# Altium schematic symbol library spacemonochrome-WR_TBL.SchLib: 1696 symbols (part 3 of 28)
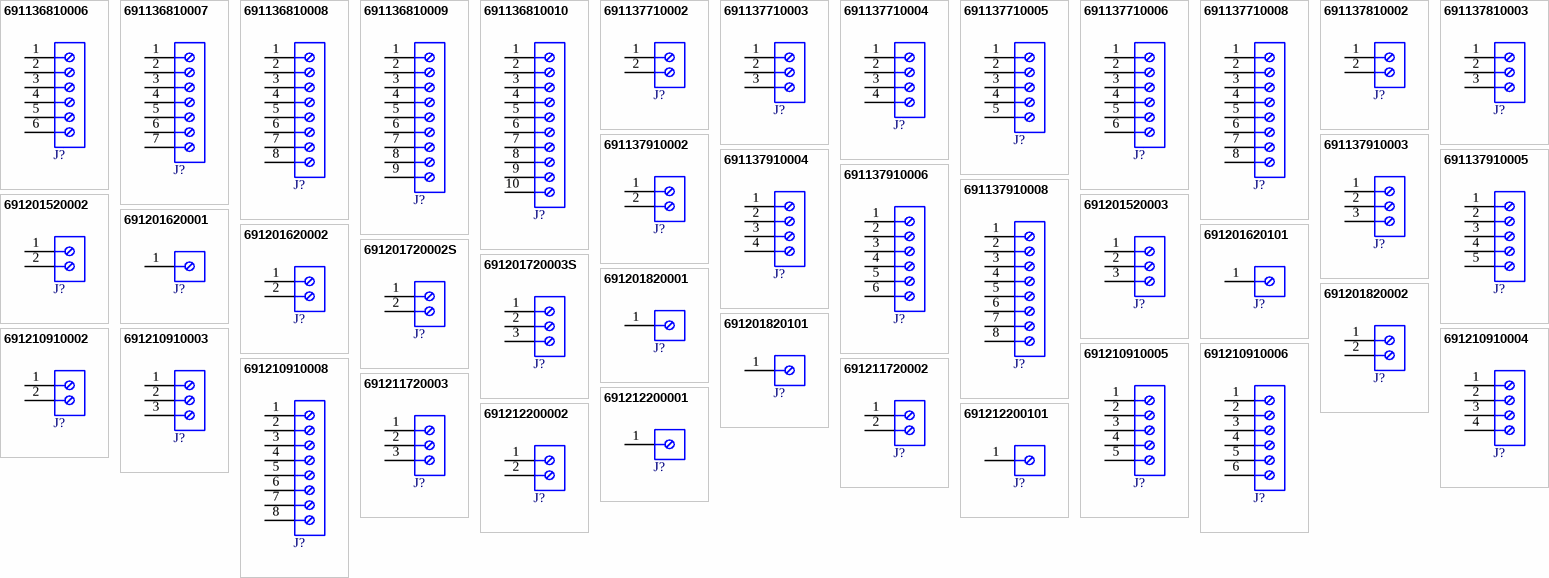
[diagram p44: symbols 691136810006 to 691212200101]

## 691137710003
designator J?  (value not drawn)
WR-TBL Series 1377 Horizontal Entry, THT, pitch 5mm, 3p; Manufacturer: Wurth Elektronik; Modularity: No; Rated Current: 16A; Working Voltage: 300V; ComponentLink1Description: Website Link; ComponentLink1URL: https://www.we-online.com/redexpert/article/691137710003?ad; ComponentLink2Description: Datasheet Link; ComponentLink2URL: https://www.we-online.com/redexpert/spec/691137710003?ad; Manufacturer Part Number: 691137710003; Category: Terminal Blocks; Match Code: WR-TBL; Mount: Through Hole; Operating Temperature Max: 120°C; Operating Temperature Min: -30°C; Packaging: Box; Application: Pressure Clamp; Number of Pins: 3; Number of Rows: 1; Orientation: Horizontal; Pitch: 5mm
footprint 691137710003
pins: 1, 2, 3

## 691137710004
designator J?  (value not drawn)
WR-TBL Series 1377 Horizontal Entry, THT, pitch 5mm, 4p; Manufacturer: Wurth Elektronik; Modularity: No; Rated Current: 16A; Working Voltage: 300V; ComponentLink1Description: Website Link; ComponentLink1URL: https://www.we-online.com/redexpert/article/691137710004?ad; ComponentLink2Description: Datasheet Link; ComponentLink2URL: https://www.we-online.com/redexpert/spec/691137710004?ad; Manufacturer Part Number: 691137710004; Category: Terminal Blocks; Match Code: WR-TBL; Mount: Through Hole; Operating Temperature Max: 120°C; Operating Temperature Min: -30°C; Packaging: Box; Application: Pressure Clamp; Number of Pins: 4; Number of Rows: 1; Orientation: Horizontal; Pitch: 5mm
footprint 691137710004
pins: 1, 2, 3, 4

## 691137710005
designator J?  (value not drawn)
WR-TBL Series 1377 Horizontal Entry, THT, pitch 5mm, 5p; Manufacturer: Wurth Elektronik; Modularity: No; Rated Current: 16A; Working Voltage: 300V; ComponentLink1Description: Website Link; ComponentLink1URL: https://www.we-online.com/redexpert/article/691137710005?ad; ComponentLink2Description: Datasheet Link; ComponentLink2URL: https://www.we-online.com/redexpert/spec/691137710005?ad; Manufacturer Part Number: 691137710005; Category: Terminal Blocks; Match Code: WR-TBL; Mount: Through Hole; Operating Temperature Max: 120°C; Operating Temperature Min: -30°C; Packaging: Box; Application: Pressure Clamp; Number of Pins: 5; Number of Rows: 1; Orientation: Horizontal; Pitch: 5mm
footprint 691137710005
pins: 1, 2, 3, 4, 5

## 691137710006
designator J?  (value not drawn)
WR-TBL Series 1377 Horizontal Entry, THT, pitch 5mm, 6p; Manufacturer: Wurth Elektronik; Modularity: No; Rated Current: 16A; Working Voltage: 300V; ComponentLink1Description: Website Link; ComponentLink1URL: https://www.we-online.com/redexpert/article/691137710006?ad; ComponentLink2Description: Datasheet Link; ComponentLink2URL: https://www.we-online.com/redexpert/spec/691137710006?ad; Manufacturer Part Number: 691137710006; Category: Terminal Blocks; Match Code: WR-TBL; Mount: Through Hole; Operating Temperature Max: 120°C; Operating Temperature Min: -30°C; Packaging: Box; Application: Pressure Clamp; Number of Pins: 6; Number of Rows: 1; Orientation: Horizontal; Pitch: 5mm
footprint 691137710006
pins: 1, 2, 3, 4, 5, 6

## 691137710008
designator J?  (value not drawn)
WR-TBL Series 1377 Horizontal Entry, THT, pitch 5mm, 8p; Manufacturer: Wurth Elektronik; Modularity: No; Rated Current: 16A; Working Voltage: 300V; ComponentLink1Description: Website Link; ComponentLink1URL: https://www.we-online.com/redexpert/article/691137710008?ad; ComponentLink2Description: Datasheet Link; ComponentLink2URL: https://www.we-online.com/redexpert/spec/691137710008?ad; Manufacturer Part Number: 691137710008; Category: Terminal Blocks; Match Code: WR-TBL; Mount: Through Hole; Operating Temperature Max: 120°C; Operating Temperature Min: -30°C; Packaging: Box; Application: Pressure Clamp; Number of Pins: 8; Number of Rows: 1; Orientation: Horizontal; Pitch: 5mm
footprint 691137710008
pins: 1, 2, 3, 4, 5, 6, 7, 8

## 691137810002
designator J?  (value not drawn)
WR-TBL Series 1378 Horizontal Cable Entry, THT, pitch 10mm, 2p; Manufacturer: Wurth Elektronik; Modularity: No; Rated Current: 16A; Working Voltage: 300V; ComponentLink1Description: Website Link; ComponentLink1URL: https://www.we-online.com/redexpert/article/691137810002?ad; ComponentLink2Description: Datasheet Link; ComponentLink2URL: https://www.we-online.com/redexpert/spec/691137810002?ad; Manufacturer Part Number: 691137810002; Category: Terminal Blocks; Match Code: WR-TBL; Mount: Through Hole; Operating Temperature Max: 120°C; Operating Temperature Min: -30°C; Packaging: Box; Application: Pressure Clamp; Number of Pins: 2; Number of Rows: 1; Orientation: Horizontal; Pitch: 10mm
footprint 691137810002
pins: 1, 2

## 691137810003
designator J?  (value not drawn)
WR-TBL Series 1378 Horizontal Cable Entry, THT, pitch 10mm, 3p; Manufacturer: Wurth Elektronik; Modularity: No; Rated Current: 16A; Working Voltage: 300V; ComponentLink1Description: Website Link; ComponentLink1URL: https://www.we-online.com/redexpert/article/691137810003?ad; ComponentLink2Description: Datasheet Link; ComponentLink2URL: https://www.we-online.com/redexpert/spec/691137810003?ad; Manufacturer Part Number: 691137810003; Category: Terminal Blocks; Match Code: WR-TBL; Mount: Through Hole; Operating Temperature Max: 120°C; Operating Temperature Min: -30°C; Packaging: Box; Application: Pressure Clamp; Number of Pins: 3; Number of Rows: 1; Orientation: Horizontal; Pitch: 10mm
footprint 691137810003
pins: 1, 2, 3

## 691137910002
designator J?  (value not drawn)
WR-TBL Series 1379 Horizontal Cable Entry, THT, pitch 7.5mm, 2p; Manufacturer: Wurth Elektronik; Modularity: No; Rated Current: 16A; Working Voltage: 300V; ComponentLink1Description: Website Link; ComponentLink1URL: https://www.we-online.com/redexpert/article/691137910002?ad; ComponentLink2Description: Datasheet Link; ComponentLink2URL: https://www.we-online.com/redexpert/spec/691137910002?ad; Manufacturer Part Number: 691137910002; Category: Terminal Blocks; Match Code: WR-TBL; Mount: Through Hole; Operating Temperature Max: 120°C; Operating Temperature Min: -30°C; Packaging: Box; Application: Pressure Clamp; Number of Pins: 2; Number of Rows: 1; Orientation: Horizontal; Pitch: 7.5mm
footprint 691137910002
pins: 1, 2

## 691137910003
designator J?  (value not drawn)
WR-TBL Series 1379 Horizontal Cable Entry, THT, pitch 7.5mm, 3p; Manufacturer: Wurth Elektronik; Modularity: No; Rated Current: 16A; Working Voltage: 300V; ComponentLink1Description: Website Link; ComponentLink1URL: https://www.we-online.com/redexpert/article/691137910003?ad; ComponentLink2Description: Datasheet Link; ComponentLink2URL: https://www.we-online.com/redexpert/spec/691137910003?ad; Manufacturer Part Number: 691137910003; Category: Terminal Blocks; Match Code: WR-TBL; Mount: Through Hole; Operating Temperature Max: 120°C; Operating Temperature Min: -30°C; Packaging: Box; Application: Pressure Clamp; Number of Pins: 3; Number of Rows: 1; Orientation: Horizontal; Pitch: 7.5mm
footprint 691137910003
pins: 1, 2, 3

## 691137910004
designator J?  (value not drawn)
WR-TBL Series 1379 Horizontal Cable Entry, THT, pitch 7.5mm, 4p; Manufacturer: Wurth Elektronik; Modularity: No; Rated Current: 16A; Working Voltage: 300V; ComponentLink1Description: Website Link; ComponentLink1URL: https://www.we-online.com/redexpert/article/691137910004?ad; ComponentLink2Description: Datasheet Link; ComponentLink2URL: https://www.we-online.com/redexpert/spec/691137910004?ad; Manufacturer Part Number: 691137910004; Category: Terminal Blocks; Match Code: WR-TBL; Mount: Through Hole; Operating Temperature Max: 120°C; Operating Temperature Min: -30°C; Packaging: Box; Application: Pressure Clamp; Number of Pins: 4; Number of Rows: 1; Orientation: Horizontal; Pitch: 7.5mm
footprint 691137910004
pins: 1, 2, 3, 4

## 691137910005
designator J?  (value not drawn)
WR-TBL Series 1379 Horizontal Cable Entry, THT, pitch 7.5mm, 5p; Manufacturer: Wurth Elektronik; Modularity: No; Rated Current: 16A; Working Voltage: 300V; ComponentLink1Description: Website Link; ComponentLink1URL: https://www.we-online.com/redexpert/article/691137910005?ad; ComponentLink2Description: Datasheet Link; ComponentLink2URL: https://www.we-online.com/redexpert/spec/691137910005?ad; Manufacturer Part Number: 691137910005; Category: Terminal Blocks; Match Code: WR-TBL; Mount: Through Hole; Operating Temperature Max: 120°C; Operating Temperature Min: -30°C; Packaging: Box; Application: Pressure Clamp; Number of Pins: 5; Number of Rows: 1; Orientation: Horizontal; Pitch: 7.5mm
footprint 691137910005
pins: 1, 2, 3, 4, 5

## 691137910006
designator J?  (value not drawn)
WR-TBL Series 1379 Horizontal Cable Entry, THT, pitch 7.5mm, 6p; Manufacturer: Wurth Elektronik; Modularity: No; Rated Current: 16A; Working Voltage: 300V; ComponentLink1Description: Website Link; ComponentLink1URL: https://www.we-online.com/redexpert/article/691137910006?ad; ComponentLink2Description: Datasheet Link; ComponentLink2URL: https://www.we-online.com/redexpert/spec/691137910006?ad; Manufacturer Part Number: 691137910006; Category: Terminal Blocks; Match Code: WR-TBL; Mount: Through Hole; Operating Temperature Max: 120°C; Operating Temperature Min: -30°C; Packaging: Box; Application: Pressure Clamp; Number of Pins: 6; Number of Rows: 1; Orientation: Horizontal; Pitch: 7.5mm
footprint 691137910006
pins: 1, 2, 3, 4, 5, 6

## 691137910008
designator J?  (value not drawn)
WR-TBL Series 1379 Horizontal Cable Entry, THT, pitch 7.5mm, 8p; Manufacturer: Wurth Elektronik; Modularity: No; Rated Current: 16A; Working Voltage: 300V; ComponentLink1Description: Website Link; ComponentLink1URL: https://www.we-online.com/redexpert/article/691137910008?ad; ComponentLink2Description: Datasheet Link; ComponentLink2URL: https://www.we-online.com/redexpert/spec/691137910008?ad; Manufacturer Part Number: 691137910008; Category: Terminal Blocks; Match Code: WR-TBL; Mount: Through Hole; Operating Temperature Max: 120°C; Operating Temperature Min: -30°C; Packaging: Box; Application: Pressure Clamp; Number of Pins: 8; Number of Rows: 1; Orientation: Horizontal; Pitch: 7.5mm
footprint 691137910008
pins: 1, 2, 3, 4, 5, 6, 7, 8

## 691201520002
designator J?  (value not drawn)
WR-TBL Series 2015 45° Entry Modular, THT, pitch 5.08mm, 2p; Manufacturer: Wurth Elektronik; Modularity: Yes; Rated Current: 16A; Working Voltage: 300V; ComponentLink1Description: Website Link; ComponentLink1URL: https://www.we-online.com/redexpert/article/691201520002?ad; ComponentLink2Description: Datasheet Link; ComponentLink2URL: https://www.we-online.com/redexpert/spec/691201520002?ad; Manufacturer Part Number: 691201520002; Category: Terminal Blocks; Match Code: WR-TBL; Mount: Through Hole; Operating Temperature Max: 120°C; Operating Temperature Min: -30°C; Packaging: Box; Application: Rising Cage Clamp; Number of Pins: 2; Number of Rows: 1; Orientation: 45°; Pitch: 5.08mm
footprint 691201520002
pins: 1, 2

## 691201520003
designator J?  (value not drawn)
WR-TBL Series 2015 45° Entry Modular, THT, pitch 5.08mm, 3p; Manufacturer: Wurth Elektronik; Modularity: Yes; Rated Current: 16A; Working Voltage: 300V; ComponentLink1Description: Website Link; ComponentLink1URL: https://www.we-online.com/redexpert/article/691201520003?ad; ComponentLink2Description: Datasheet Link; ComponentLink2URL: https://www.we-online.com/redexpert/spec/691201520003?ad; Manufacturer Part Number: 691201520003; Category: Terminal Blocks; Match Code: WR-TBL; Mount: Through Hole; Operating Temperature Max: 120°C; Operating Temperature Min: -30°C; Packaging: Box; Application: Rising Cage Clamp; Number of Pins: 3; Number of Rows: 1; Orientation: 45°; Pitch: 5.08mm
footprint 691201520003
pins: 1, 2, 3

## 691201620001
designator J?  (value not drawn)
WR-TBL Series 2016 45° Entry, THT, pitch 10.16mm, 1p; Manufacturer: Wurth Elektronik; Modularity: Yes; Rated Current: 16A; Working Voltage: 300V; ComponentLink1Description: Website Link; ComponentLink1URL: https://www.we-online.com/redexpert/article/691201620001?ad; ComponentLink2Description: Datasheet Link; ComponentLink2URL: https://www.we-online.com/redexpert/spec/691201620001?ad; Manufacturer Part Number: 691201620001; Category: Terminal Blocks; Match Code: WR-TBL; Mount: Through Hole; Operating Temperature Max: 120°C; Operating Temperature Min: -30°C; Packaging: Box; Application: Rising Cage Clamp; Number of Pins: 1; Number of Rows: 1; Orientation: 45°; Pitch: 10.16mm
footprint 691201620001
pins: 1

## 691201620002
designator J?  (value not drawn)
WR-TBL Series 2016 45° Entry, THT, pitch 10.16mm, 2p; Manufacturer: Wurth Elektronik; Modularity: Yes; Rated Current: 16A; Working Voltage: 300V; ComponentLink1Description: Website Link; ComponentLink1URL: https://www.we-online.com/redexpert/article/691201620002?ad; ComponentLink2Description: Datasheet Link; ComponentLink2URL: https://www.we-online.com/redexpert/spec/691201620002?ad; Manufacturer Part Number: 691201620002; Category: Terminal Blocks; Match Code: WR-TBL; Mount: Through Hole; Operating Temperature Max: 120°C; Operating Temperature Min: -30°C; Packaging: Box; Application: Rising Cage Clamp; Number of Pins: 2; Number of Rows: 1; Orientation: 45°; Pitch: 10.16mm
footprint 691201620002
pins: 1, 2

## 691201620101
designator J?  (value not drawn)
WR-TBL Series 2016 45° Entry, THT, pitch 10.16mm, 1p; Manufacturer: Wurth Elektronik; Modularity: Yes; Rated Current: 16A; Working Voltage: 300V; ComponentLink1Description: Website Link; ComponentLink1URL: https://www.we-online.com/redexpert/article/691201620101?ad; ComponentLink2Description: Datasheet Link; ComponentLink2URL: https://www.we-online.com/redexpert/spec/691201620101?ad; Manufacturer Part Number: 691201620101; Category: Terminal Blocks; Match Code: WR-TBL; Mount: Through Hole; Operating Temperature Max: 120°C; Operating Temperature Min: -30°C; Packaging: Box; Application: Rising Cage Clamp; Number of Pins: 1; Number of Rows: 1; Orientation: 45°; Pitch: 10.16mm
footprint 691201620101
pins: 1

## 691201720002S
designator J?  (value not drawn)
WR-TBL Series 201S 45° Entry Modular, THT, pitch 5mm, 2p; Manufacturer: Wurth Elektronik; Modularity: Yes; Rated Current: 16A; Working Voltage: 300V; ComponentLink1Description: Website Link; ComponentLink1URL: https://www.we-online.com/redexpert/article/691201720002S?ad; ComponentLink2Description: Datasheet Link; ComponentLink2URL: https://www.we-online.com/redexpert/spec/691201720002S?ad; Manufacturer Part Number: 691201720002S; Category: Terminal Blocks; Match Code: WR-TBL; Mount: Through Hole; Operating Temperature Max: 120°C; Operating Temperature Min: -30°C; Packaging: Box; Application: Rising Cage Clamp; Number of Pins: 2; Number of Rows: 1; Orientation: 45°; Pitch: 5mm
footprint 691201720002S
pins: 1, 2

## 691201720003S
designator J?  (value not drawn)
WR-TBL Series 201S 45° Entry Modular, THT, pitch 5mm, 3p; Manufacturer: Wurth Elektronik; Modularity: Yes; Rated Current: 16A; Working Voltage: 300V; ComponentLink1Description: Website Link; ComponentLink1URL: https://www.we-online.com/redexpert/article/691201720003S?ad; ComponentLink2Description: Datasheet Link; ComponentLink2URL: https://www.we-online.com/redexpert/spec/691201720003S?ad; Manufacturer Part Number: 691201720003S; Category: Terminal Blocks; Match Code: WR-TBL; Mount: Through Hole; Operating Temperature Max: 120°C; Operating Temperature Min: -30°C; Packaging: Box; Application: Rising Cage Clamp; Number of Pins: 3; Number of Rows: 1; Orientation: 45°; Pitch: 5mm
footprint 691201720003S
pins: 1, 2, 3

## 691201820001
designator J?  (value not drawn)
WR-TBL Series 2018 45° Entry, THT, pitch 10mm, 1p; Manufacturer: Wurth Elektronik; Modularity: Yes; Rated Current: 16A; Working Voltage: 300V; ComponentLink1Description: Website Link; ComponentLink1URL: https://www.we-online.com/redexpert/article/691201820001?ad; ComponentLink2Description: Datasheet Link; ComponentLink2URL: https://www.we-online.com/redexpert/spec/691201820001?ad; Manufacturer Part Number: 691201820001; Category: Terminal Blocks; Match Code: WR-TBL; Mount: Through Hole; Operating Temperature Max: 120°C; Operating Temperature Min: -30°C; Packaging: Box; Application: Rising Cage Clamp; Number of Pins: 1; Number of Rows: 1; Orientation: 45°; Pitch: 10mm
footprint 691201820001
pins: 1

## 691201820002
designator J?  (value not drawn)
WR-TBL Series 2018 45° Entry, THT, pitch 10mm, 2p; Manufacturer: Wurth Elektronik; Modularity: Yes; Rated Current: 16A; Working Voltage: 300V; ComponentLink1Description: Website Link; ComponentLink1URL: https://www.we-online.com/redexpert/article/691201820002?ad; ComponentLink2Description: Datasheet Link; ComponentLink2URL: https://www.we-online.com/redexpert/spec/691201820002?ad; Manufacturer Part Number: 691201820002; Category: Terminal Blocks; Match Code: WR-TBL; Mount: Through Hole; Operating Temperature Max: 120°C; Operating Temperature Min: -30°C; Packaging: Box; Application: Rising Cage Clamp; Number of Pins: 2; Number of Rows: 1; Orientation: 45°; Pitch: 10mm
footprint 691201820002
pins: 1, 2

## 691201820101
designator J?  (value not drawn)
WR-TBL Series 2018 45° Entry, THT, pitch 10mm, 1p; Manufacturer: Wurth Elektronik; Modularity: Yes; Rated Current: 16A; Working Voltage: 300V; ComponentLink1Description: Website Link; ComponentLink1URL: https://www.we-online.com/redexpert/article/691201820101?ad; ComponentLink2Description: Datasheet Link; ComponentLink2URL: https://www.we-online.com/redexpert/spec/691201820101?ad; Manufacturer Part Number: 691201820101; Category: Terminal Blocks; Match Code: WR-TBL; Mount: Through Hole; Operating Temperature Max: 120°C; Operating Temperature Min: -30°C; Packaging: Box; Application: Rising Cage Clamp; Number of Pins: 1; Number of Rows: 1; Orientation: 45°; Pitch: 10mm
footprint 691201820101
pins: 1

## 691210910002
designator J?  (value not drawn)
WR-TBL Series 2109 Horizontal Entry, THT, pitch 2.54mm, 2p; Manufacturer: Wurth Elektronik; Modularity: No; Rated Current: 6A; Working Voltage: 150V; ComponentLink1Description: Website Link; ComponentLink1URL: https://www.we-online.com/redexpert/article/691210910002?ad; ComponentLink2Description: Datasheet Link; ComponentLink2URL: https://www.we-online.com/redexpert/spec/691210910002?ad; Manufacturer Part Number: 691210910002; Category: Terminal Blocks; Match Code: WR-TBL; Mount: Through Hole; Operating Temperature Max: 105°C; Operating Temperature Min: -40°C; Packaging: Box; Application: Rising Cage Clamp; Number of Pins: 2; Number of Rows: 1; Orientation: Horizontal; Pitch: 2.54mm
footprint 691210910002
pins: 1, 2

## 691210910003
designator J?  (value not drawn)
WR-TBL Series 2109 Horizontal Entry, THT, pitch 2.54mm, 3p; Manufacturer: Wurth Elektronik; Modularity: No; Rated Current: 6A; Working Voltage: 150V; ComponentLink1Description: Website Link; ComponentLink1URL: https://www.we-online.com/redexpert/article/691210910003?ad; ComponentLink2Description: Datasheet Link; ComponentLink2URL: https://www.we-online.com/redexpert/spec/691210910003?ad; Manufacturer Part Number: 691210910003; Category: Terminal Blocks; Match Code: WR-TBL; Mount: Through Hole; Operating Temperature Max: 105°C; Operating Temperature Min: -40°C; Packaging: Box; Application: Rising Cage Clamp; Number of Pins: 3; Number of Rows: 1; Orientation: Horizontal; Pitch: 2.54mm
footprint 691210910003
pins: 1, 2, 3

## 691210910004
designator J?  (value not drawn)
WR-TBL Series 2109 Horizontal Entry, THT, pitch 2.54mm, 4p; Manufacturer: Wurth Elektronik; Modularity: No; Rated Current: 6A; Working Voltage: 150V; ComponentLink1Description: Website Link; ComponentLink1URL: https://www.we-online.com/redexpert/article/691210910004?ad; ComponentLink2Description: Datasheet Link; ComponentLink2URL: https://www.we-online.com/redexpert/spec/691210910004?ad; Manufacturer Part Number: 691210910004; Category: Terminal Blocks; Match Code: WR-TBL; Mount: Through Hole; Operating Temperature Max: 105°C; Operating Temperature Min: -40°C; Packaging: Box; Application: Rising Cage Clamp; Number of Pins: 4; Number of Rows: 1; Orientation: Horizontal; Pitch: 2.54mm
footprint 691210910004
pins: 1, 2, 3, 4

## 691210910005
designator J?  (value not drawn)
WR-TBL Series 2109 Horizontal Entry, THT, pitch 2.54mm, 5p; Manufacturer: Wurth Elektronik; Modularity: No; Rated Current: 6A; Working Voltage: 150V; ComponentLink1Description: Website Link; ComponentLink1URL: https://www.we-online.com/redexpert/article/691210910005?ad; ComponentLink2Description: Datasheet Link; ComponentLink2URL: https://www.we-online.com/redexpert/spec/691210910005?ad; Manufacturer Part Number: 691210910005; Category: Terminal Blocks; Match Code: WR-TBL; Mount: Through Hole; Operating Temperature Max: 105°C; Operating Temperature Min: -40°C; Packaging: Box; Application: Rising Cage Clamp; Number of Pins: 5; Number of Rows: 1; Orientation: Horizontal; Pitch: 2.54mm
footprint 691210910005
pins: 1, 2, 3, 4, 5

## 691210910006
designator J?  (value not drawn)
WR-TBL Series 2109 Horizontal Entry, THT, pitch 2.54mm, 6p; Manufacturer: Wurth Elektronik; Modularity: No; Rated Current: 6A; Working Voltage: 150V; ComponentLink1Description: Website Link; ComponentLink1URL: https://www.we-online.com/redexpert/article/691210910006?ad; ComponentLink2Description: Datasheet Link; ComponentLink2URL: https://www.we-online.com/redexpert/spec/691210910006?ad; Manufacturer Part Number: 691210910006; Category: Terminal Blocks; Match Code: WR-TBL; Mount: Through Hole; Operating Temperature Max: 105°C; Operating Temperature Min: -40°C; Packaging: Box; Application: Rising Cage Clamp; Number of Pins: 6; Number of Rows: 1; Orientation: Horizontal; Pitch: 2.54mm
footprint 691210910006
pins: 1, 2, 3, 4, 5, 6

## 691210910008
designator J?  (value not drawn)
WR-TBL Series 2109 Horizontal Entry, THT, pitch 2.54mm, 8p; Manufacturer: Wurth Elektronik; Modularity: No; Rated Current: 6A; Working Voltage: 150V; ComponentLink1Description: Website Link; ComponentLink1URL: https://www.we-online.com/redexpert/article/691210910008?ad; ComponentLink2Description: Datasheet Link; ComponentLink2URL: https://www.we-online.com/redexpert/spec/691210910008?ad; Manufacturer Part Number: 691210910008; Category: Terminal Blocks; Match Code: WR-TBL; Mount: Through Hole; Operating Temperature Max: 105°C; Operating Temperature Min: -40°C; Packaging: Box; Application: Rising Cage Clamp; Number of Pins: 8; Number of Rows: 1; Orientation: Horizontal; Pitch: 2.54mm
footprint 691210910008
pins: 1, 2, 3, 4, 5, 6, 7, 8

## 691211720002
designator J?  (value not drawn)
WR-TBL Series 211 45° Entry Modular, THT, pitch 5mm, 2p; Manufacturer: Wurth Elektronik; Modularity: Yes; Rated Current: 10A; Working Voltage: 300V; ComponentLink1Description: Website Link; ComponentLink1URL: https://www.we-online.com/redexpert/article/691211720002?ad; ComponentLink2Description: Datasheet Link; ComponentLink2URL: https://www.we-online.com/redexpert/spec/691211720002?ad; Manufacturer Part Number: 691211720002; Category: Terminal Blocks; Match Code: WR-TBL; Mount: Through Hole; Operating Temperature Max: 105°C; Operating Temperature Min: -40°C; Packaging: Box; Application: Rising Cage Clamp; Number of Pins: 2; Number of Rows: 1; Orientation: 45°; Pitch: 5mm
footprint 691211720002
pins: 1, 2

## 691211720003
designator J?  (value not drawn)
WR-TBL Series 211 45° Entry Modular, THT, pitch 5mm, 3p; Manufacturer: Wurth Elektronik; Modularity: Yes; Rated Current: 10A; Working Voltage: 300V; ComponentLink1Description: Website Link; ComponentLink1URL: https://www.we-online.com/redexpert/article/691211720003?ad; ComponentLink2Description: Datasheet Link; ComponentLink2URL: https://www.we-online.com/redexpert/spec/691211720003?ad; Manufacturer Part Number: 691211720003; Category: Terminal Blocks; Match Code: WR-TBL; Mount: Through Hole; Operating Temperature Max: 105°C; Operating Temperature Min: -40°C; Packaging: Box; Application: Rising Cage Clamp; Number of Pins: 3; Number of Rows: 1; Orientation: 45°; Pitch: 5mm
footprint 691211720003
pins: 1, 2, 3

## 691212200001
designator J?  (value not drawn)
WR-TBL Series 2122 Vertical Cable Entry, THT, pitch 7mm, 1p; Manufacturer: Wurth Elektronik; Modularity: Yes; Rated Current: 10A; Working Voltage: 300V; ComponentLink1Description: Website Link; ComponentLink1URL: https://www.we-online.com/redexpert/article/691212200001?ad; ComponentLink2Description: Datasheet Link; ComponentLink2URL: https://www.we-online.com/redexpert/spec/691212200001?ad; Manufacturer Part Number: 691212200001; Category: Terminal Blocks; Match Code: WR-TBL; Mount: Through Hole; Operating Temperature Max: 120°C; Operating Temperature Min: -30°C; Packaging: Box; Application: Rising Cage Clamp; Number of Pins: 1; Number of Rows: 1; Orientation: Vertical; Pitch: 7mm
footprint 691212200001
pins: 1

## 691212200002
designator J?  (value not drawn)
WR-TBL Series 2122 Vertical Cable Entry, THT, pitch 7mm, 2p; Manufacturer: Wurth Elektronik; Modularity: Yes; Rated Current: 10A; Working Voltage: 300V; ComponentLink1Description: Website Link; ComponentLink1URL: https://www.we-online.com/redexpert/article/691212200002?ad; ComponentLink2Description: Datasheet Link; ComponentLink2URL: https://www.we-online.com/redexpert/spec/691212200002?ad; Manufacturer Part Number: 691212200002; Category: Terminal Blocks; Match Code: WR-TBL; Mount: Through Hole; Operating Temperature Max: 120°C; Operating Temperature Min: -30°C; Packaging: Box; Application: Rising Cage Clamp; Number of Pins: 2; Number of Rows: 1; Orientation: Vertical; Pitch: 7mm
footprint 691212200002
pins: 1, 2

## 691212200101
designator J?  (value not drawn)
WR-TBL Series 2122 Vertical Cable Entry, THT, pitch 7mm, 1p; Manufacturer: Wurth Elektronik; Modularity: Yes; Rated Current: 10A; Working Voltage: 300V; ComponentLink1Description: Website Link; ComponentLink1URL: https://www.we-online.com/redexpert/article/691212200101?ad; ComponentLink2Description: Datasheet Link; ComponentLink2URL: https://www.we-online.com/redexpert/spec/691212200101?ad; Manufacturer Part Number: 691212200101; Category: Terminal Blocks; Match Code: WR-TBL; Mount: Through Hole; Operating Temperature Max: 120°C; Operating Temperature Min: -30°C; Packaging: Box; Application: Rising Cage Clamp; Number of Pins: 1; Number of Rows: 1; Orientation: Vertical; Pitch: 7mm
footprint 691212200101
pins: 1

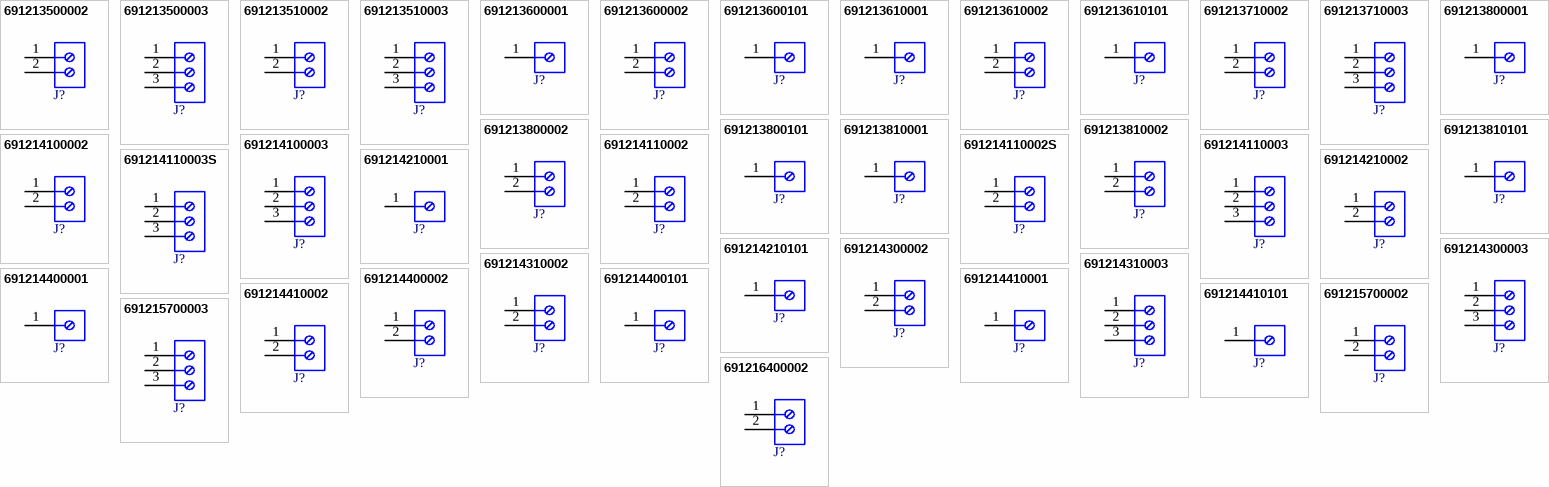
[diagram p4: symbols 691213500002 to 691216400002]

## 691213500002
designator J?  (value not drawn)
WR-TBL Series 2135 Vertical Entry Modular, THT, pitch 5.08mm, 2p; Manufacturer: Wurth Elektronik; Modularity: Yes; Rated Current: 14A; Working Voltage: 300V; ComponentLink1Description: Website Link; ComponentLink1URL: https://www.we-online.com/redexpert/article/691213500002?ad; ComponentLink2Description: Datasheet Link; ComponentLink2URL: https://www.we-online.com/redexpert/spec/691213500002?ad; Manufacturer Part Number: 691213500002; Category: Terminal Blocks; Match Code: WR-TBL; Mount: Through Hole; Operating Temperature Max: 120°C; Operating Temperature Min: -30°C; Packaging: Box; Application: Rising Cage Clamp; Number of Pins: 2; Number of Rows: 1; Orientation: Vertical; Pitch: 5.08mm
footprint 691213500002
pins: 1, 2

## 691213500003
designator J?  (value not drawn)
WR-TBL Series 2135 Vertical Entry Modular, THT, pitch 5.08mm, 3p; Manufacturer: Wurth Elektronik; Modularity: Yes; Rated Current: 14A; Working Voltage: 300V; ComponentLink1Description: Website Link; ComponentLink1URL: https://www.we-online.com/redexpert/article/691213500003?ad; ComponentLink2Description: Datasheet Link; ComponentLink2URL: https://www.we-online.com/redexpert/spec/691213500003?ad; Manufacturer Part Number: 691213500003; Category: Terminal Blocks; Match Code: WR-TBL; Mount: Through Hole; Operating Temperature Max: 120°C; Operating Temperature Min: -30°C; Packaging: Box; Application: Rising Cage Clamp; Number of Pins: 3; Number of Rows: 1; Orientation: Vertical; Pitch: 5.08mm
footprint 691213500003
pins: 1, 2, 3

## 691213510002
designator J?  (value not drawn)
WR-TBL Series 2135 Horizontal Entry Modular, THT, pitch 5.08mm, 2p; Manufacturer: Wurth Elektronik; Modularity: Yes; Rated Current: 14A; Working Voltage: 300V; ComponentLink1Description: Website Link; ComponentLink1URL: https://www.we-online.com/redexpert/article/691213510002?ad; ComponentLink2Description: Datasheet Link; ComponentLink2URL: https://www.we-online.com/redexpert/spec/691213510002?ad; Manufacturer Part Number: 691213510002; Category: Terminal Blocks; Match Code: WR-TBL; Mount: Through Hole; Operating Temperature Max: 120°C; Operating Temperature Min: -30°C; Packaging: Box; Application: Rising Cage Clamp; Number of Pins: 2; Number of Rows: 1; Orientation: Horizontal; Pitch: 5.08mm
footprint 691213510002
pins: 1, 2

## 691213510003
designator J?  (value not drawn)
WR-TBL Series 2135 Horizontal Entry Modular, THT, pitch 5.08mm, 3p; Manufacturer: Wurth Elektronik; Modularity: Yes; Rated Current: 14A; Working Voltage: 300V; ComponentLink1Description: Website Link; ComponentLink1URL: https://www.we-online.com/redexpert/article/691213510003?ad; ComponentLink2Description: Datasheet Link; ComponentLink2URL: https://www.we-online.com/redexpert/spec/691213510003?ad; Manufacturer Part Number: 691213510003; Category: Terminal Blocks; Match Code: WR-TBL; Mount: Through Hole; Operating Temperature Max: 120°C; Operating Temperature Min: -30°C; Packaging: Box; Application: Rising Cage Clamp; Number of Pins: 3; Number of Rows: 1; Orientation: Horizontal; Pitch: 5.08mm
footprint 691213510003
pins: 1, 2, 3

## 691213600001
designator J?  (value not drawn)
WR-TBL Series 2136 Vertical Entry, THT, pitch 10.16mm, 1p; Manufacturer: Wurth Elektronik; Modularity: Yes; Rated Current: 14A; Working Voltage: 300V; ComponentLink1Description: Website Link; ComponentLink1URL: https://www.we-online.com/redexpert/article/691213600001?ad; ComponentLink2Description: Datasheet Link; ComponentLink2URL: https://www.we-online.com/redexpert/spec/691213600001?ad; Manufacturer Part Number: 691213600001; Category: Terminal Blocks; Match Code: WR-TBL; Mount: Through Hole; Operating Temperature Max: 120°C; Operating Temperature Min: -30°C; Packaging: Box; Application: Rising Cage Clamp; Number of Pins: 1; Number of Rows: 1; Orientation: Vertical; Pitch: 10.16mm
footprint 691213600001
pins: 1

## 691213600002
designator J?  (value not drawn)
WR-TBL Series 2136 Vertical Entry, THT, pitch 10.16mm, 2p; Manufacturer: Wurth Elektronik; Modularity: Yes; Rated Current: 14A; Working Voltage: 300V; ComponentLink1Description: Website Link; ComponentLink1URL: https://www.we-online.com/redexpert/article/691213600002?ad; ComponentLink2Description: Datasheet Link; ComponentLink2URL: https://www.we-online.com/redexpert/spec/691213600002?ad; Manufacturer Part Number: 691213600002; Category: Terminal Blocks; Match Code: WR-TBL; Mount: Through Hole; Operating Temperature Max: 120°C; Operating Temperature Min: -30°C; Packaging: Box; Application: Rising Cage Clamp; Number of Pins: 2; Number of Rows: 1; Orientation: Vertical; Pitch: 10.16mm
footprint 691213600002
pins: 1, 2

## 691213600101
designator J?  (value not drawn)
WR-TBL Series 2136 Vertical Entry, THT, pitch 10.16mm, 1p; Manufacturer: Wurth Elektronik; Modularity: Yes; Rated Current: 14A; Working Voltage: 300V; ComponentLink1Description: Website Link; ComponentLink1URL: https://www.we-online.com/redexpert/article/691213600101?ad; ComponentLink2Description: Datasheet Link; ComponentLink2URL: https://www.we-online.com/redexpert/spec/691213600101?ad; Manufacturer Part Number: 691213600101; Category: Terminal Blocks; Match Code: WR-TBL; Mount: Through Hole; Operating Temperature Max: 120°C; Operating Temperature Min: -30°C; Packaging: Box; Application: Rising Cage Clamp; Number of Pins: 1; Number of Rows: 1; Orientation: Vertical; Pitch: 10.16mm
footprint 691213600101
pins: 1

## 691213610001
designator J?  (value not drawn)
WR-TBL Series 2136 Horizontal Entry, THT, pitch 10.16mm, 1p; Manufacturer: Wurth Elektronik; Modularity: Yes; Rated Current: 14A; Working Voltage: 300V; ComponentLink1Description: Website Link; ComponentLink1URL: https://www.we-online.com/redexpert/article/691213610001?ad; ComponentLink2Description: Datasheet Link; ComponentLink2URL: https://www.we-online.com/redexpert/spec/691213610001?ad; Manufacturer Part Number: 691213610001; Category: Terminal Blocks; Match Code: WR-TBL; Mount: Through Hole; Operating Temperature Max: 120°C; Operating Temperature Min: -30°C; Packaging: Box; Application: Rising Cage Clamp; Number of Pins: 1; Number of Rows: 1; Orientation: Horizontal; Pitch: 10.16mm
footprint 691213610001
pins: 1

## 691213610002
designator J?  (value not drawn)
WR-TBL Series 2136 Horizontal Entry, THT, pitch 10.16mm, 2p; Manufacturer: Wurth Elektronik; Modularity: Yes; Rated Current: 14A; Working Voltage: 300V; ComponentLink1Description: Website Link; ComponentLink1URL: https://www.we-online.com/redexpert/article/691213610002?ad; ComponentLink2Description: Datasheet Link; ComponentLink2URL: https://www.we-online.com/redexpert/spec/691213610002?ad; Manufacturer Part Number: 691213610002; Category: Terminal Blocks; Match Code: WR-TBL; Mount: Through Hole; Operating Temperature Max: 120°C; Operating Temperature Min: -30°C; Packaging: Box; Application: Rising Cage Clamp; Number of Pins: 2; Number of Rows: 1; Orientation: Horizontal; Pitch: 10.16mm
footprint 691213610002
pins: 1, 2

## 691213610101
designator J?  (value not drawn)
WR-TBL Series 2136 Horizontal Entry, THT, pitch 10.16mm, 1p; Manufacturer: Wurth Elektronik; Modularity: Yes; Rated Current: 14A; Working Voltage: 300V; ComponentLink1Description: Website Link; ComponentLink1URL: https://www.we-online.com/redexpert/article/691213610101?ad; ComponentLink2Description: Datasheet Link; ComponentLink2URL: https://www.we-online.com/redexpert/spec/691213610101?ad; Manufacturer Part Number: 691213610101; Category: Terminal Blocks; Match Code: WR-TBL; Mount: Through Hole; Operating Temperature Max: 120°C; Operating Temperature Min: -30°C; Packaging: Box; Application: Rising Cage Clamp; Number of Pins: 1; Number of Rows: 1; Orientation: Horizontal; Pitch: 10.16mm
footprint 691213610101
pins: 1

## 691213710002
designator J?  (value not drawn)
WR-TBL Series 213 Horizontal Entry Modular, THT, pitch 5mm, 2p; Manufacturer: Wurth Elektronik; Modularity: Yes; Rated Current: 10A; Working Voltage: 300V; ComponentLink1Description: Website Link; ComponentLink1URL: https://www.we-online.com/redexpert/article/691213710002?ad; ComponentLink2Description: Datasheet Link; ComponentLink2URL: https://www.we-online.com/redexpert/spec/691213710002?ad; Manufacturer Part Number: 691213710002; Category: Terminal Blocks; Match Code: WR-TBL; Mount: Through Hole; Operating Temperature Max: 105°C; Operating Temperature Min: -40°C; Packaging: Box; Application: Rising Cage Clamp; Number of Pins: 2; Number of Rows: 1; Orientation: Horizontal; Pitch: 5mm
footprint 691213710002
pins: 1, 2

## 691213710003
designator J?  (value not drawn)
WR-TBL Series 213 Horizontal Entry Modular, THT, pitch 5mm, 3p; Manufacturer: Wurth Elektronik; Modularity: Yes; Rated Current: 10A; Working Voltage: 300V; ComponentLink1Description: Website Link; ComponentLink1URL: https://www.we-online.com/redexpert/article/691213710003?ad; ComponentLink2Description: Datasheet Link; ComponentLink2URL: https://www.we-online.com/redexpert/spec/691213710003?ad; Manufacturer Part Number: 691213710003; Category: Terminal Blocks; Match Code: WR-TBL; Mount: Through Hole; Operating Temperature Max: 105°C; Operating Temperature Min: -40°C; Packaging: Box; Application: Rising Cage Clamp; Number of Pins: 3; Number of Rows: 1; Orientation: Horizontal; Pitch: 5mm
footprint 691213710003
pins: 1, 2, 3

## 691213800001
designator J?  (value not drawn)
WR-TBL Series 2138 Vertical Entry, THT, pitch 10mm, 1p; Manufacturer: Wurth Elektronik; Modularity: Yes; Rated Current: 14A; Working Voltage: 300V; ComponentLink1Description: Website Link; ComponentLink1URL: https://www.we-online.com/redexpert/article/691213800001?ad; ComponentLink2Description: Datasheet Link; ComponentLink2URL: https://www.we-online.com/redexpert/spec/691213800001?ad; Manufacturer Part Number: 691213800001; Category: Terminal Blocks; Match Code: WR-TBL; Mount: Through Hole; Operating Temperature Max: 120°C; Operating Temperature Min: -30°C; Packaging: Box; Application: Rising Cage Clamp; Number of Pins: 1; Number of Rows: 1; Orientation: Vertical; Pitch: 10mm
footprint 691213800001
pins: 1

## 691213800002
designator J?  (value not drawn)
WR-TBL Series 2138 Vertical Entry, THT, pitch 10mm, 2p; Manufacturer: Wurth Elektronik; Modularity: Yes; Rated Current: 14A; Working Voltage: 300V; ComponentLink1Description: Website Link; ComponentLink1URL: https://www.we-online.com/redexpert/article/691213800002?ad; ComponentLink2Description: Datasheet Link; ComponentLink2URL: https://www.we-online.com/redexpert/spec/691213800002?ad; Manufacturer Part Number: 691213800002; Category: Terminal Blocks; Match Code: WR-TBL; Mount: Through Hole; Operating Temperature Max: 120°C; Operating Temperature Min: -30°C; Packaging: Box; Application: Rising Cage Clamp; Number of Pins: 2; Number of Rows: 1; Orientation: Vertical; Pitch: 10mm
footprint 691213800002
pins: 1, 2

## 691213800101
designator J?  (value not drawn)
WR-TBL Series 2138 Vertical Entry, THT, pitch 10mm, 1p; Manufacturer: Wurth Elektronik; Modularity: Yes; Rated Current: 14A; Working Voltage: 300V; ComponentLink1Description: Website Link; ComponentLink1URL: https://www.we-online.com/redexpert/article/691213800101?ad; ComponentLink2Description: Datasheet Link; ComponentLink2URL: https://www.we-online.com/redexpert/spec/691213800101?ad; Manufacturer Part Number: 691213800101; Category: Terminal Blocks; Match Code: WR-TBL; Mount: Through Hole; Operating Temperature Max: 120°C; Operating Temperature Min: -30°C; Packaging: Box; Application: Rising Cage Clamp; Number of Pins: 1; Number of Rows: 1; Orientation: Vertical; Pitch: 10mm
footprint 691213800101
pins: 1

## 691213810001
designator J?  (value not drawn)
WR-TBL Series 2138 Horizontal Entry, THT, pitch 10mm, 1p; Manufacturer: Wurth Elektronik; Modularity: Yes; Rated Current: 14A; Working Voltage: 300V; ComponentLink1Description: Website Link; ComponentLink1URL: https://www.we-online.com/redexpert/article/691213810001?ad; ComponentLink2Description: Datasheet Link; ComponentLink2URL: https://www.we-online.com/redexpert/spec/691213810001?ad; Manufacturer Part Number: 691213810001; Category: Terminal Blocks; Match Code: WR-TBL; Mount: Through Hole; Operating Temperature Max: 120°C; Operating Temperature Min: -30°C; Packaging: Box; Application: Rising Cage Clamp; Number of Pins: 1; Number of Rows: 1; Orientation: Horizontal; Pitch: 10mm
footprint 691213810001
pins: 1

## 691213810002
designator J?  (value not drawn)
WR-TBL Series 2138 Horizontal Entry, THT, pitch 10mm, 2p; Manufacturer: Wurth Elektronik; Modularity: Yes; Rated Current: 14A; Working Voltage: 300V; ComponentLink1Description: Website Link; ComponentLink1URL: https://www.we-online.com/redexpert/article/691213810002?ad; ComponentLink2Description: Datasheet Link; ComponentLink2URL: https://www.we-online.com/redexpert/spec/691213810002?ad; Manufacturer Part Number: 691213810002; Category: Terminal Blocks; Match Code: WR-TBL; Mount: Through Hole; Operating Temperature Max: 120°C; Operating Temperature Min: -30°C; Packaging: Box; Application: Rising Cage Clamp; Number of Pins: 2; Number of Rows: 1; Orientation: Horizontal; Pitch: 10mm
footprint 691213810002
pins: 1, 2

## 691213810101
designator J?  (value not drawn)
WR-TBL Series 2138 Horizontal Entry, THT, pitch 10mm, 1p; Manufacturer: Wurth Elektronik; Modularity: Yes; Rated Current: 14A; Working Voltage: 300V; ComponentLink1Description: Website Link; ComponentLink1URL: https://www.we-online.com/redexpert/article/691213810101?ad; ComponentLink2Description: Datasheet Link; ComponentLink2URL: https://www.we-online.com/redexpert/spec/691213810101?ad; Manufacturer Part Number: 691213810101; Category: Terminal Blocks; Match Code: WR-TBL; Mount: Through Hole; Operating Temperature Max: 120°C; Operating Temperature Min: -30°C; Packaging: Box; Application: Rising Cage Clamp; Number of Pins: 1; Number of Rows: 1; Orientation: Horizontal; Pitch: 10mm
footprint 691213810101
pins: 1

## 691214100002
designator J?  (value not drawn)
WR-TBL Series 2141 Vertical Entry Modular, THT, pitch 3.5mm, 2p; Manufacturer: Wurth Elektronik; Modularity: Yes; Rated Current: 10A; Working Voltage: 300V; ComponentLink1Description: Website Link; ComponentLink1URL: https://www.we-online.com/redexpert/article/691214100002?ad; ComponentLink2Description: Datasheet Link; ComponentLink2URL: https://www.we-online.com/redexpert/spec/691214100002?ad; Manufacturer Part Number: 691214100002; Category: Terminal Blocks; Match Code: WR-TBL; Mount: Through Hole; Operating Temperature Max: 120°C; Operating Temperature Min: -30°C; Packaging: Box; Application: Rising Cage Clamp; Number of Pins: 2; Number of Rows: 1; Orientation: Vertical; Pitch: 3.5mm
footprint 691214100002
pins: 1, 2

## 691214100003
designator J?  (value not drawn)
WR-TBL Series 2141 Vertical Entry Modular, THT, pitch 3.5mm, 3p; Manufacturer: Wurth Elektronik; Modularity: Yes; Rated Current: 10A; Working Voltage: 300V; ComponentLink1Description: Website Link; ComponentLink1URL: https://www.we-online.com/redexpert/article/691214100003?ad; ComponentLink2Description: Datasheet Link; ComponentLink2URL: https://www.we-online.com/redexpert/spec/691214100003?ad; Manufacturer Part Number: 691214100003; Category: Terminal Blocks; Match Code: WR-TBL; Mount: Through Hole; Operating Temperature Max: 120°C; Operating Temperature Min: -30°C; Packaging: Box; Application: Rising Cage Clamp; Number of Pins: 3; Number of Rows: 1; Orientation: Vertical; Pitch: 3.5mm
footprint 691214100003
pins: 1, 2, 3

## 691214110002
designator J?  (value not drawn)
WR-TBL Series 2141 Horizontal Entry Modular, THT, pitch 3.5mm, 2p; Manufacturer: Wurth Elektronik; Modularity: Yes; Rated Current: 10A; Working Voltage: 300V; ComponentLink1Description: Website Link; ComponentLink1URL: https://www.we-online.com/redexpert/article/691214110002?ad; ComponentLink2Description: Datasheet Link; ComponentLink2URL: https://www.we-online.com/redexpert/spec/691214110002?ad; Manufacturer Part Number: 691214110002; Category: Terminal Blocks; Match Code: WR-TBL; Mount: Through Hole; Operating Temperature Max: 105°C; Operating Temperature Min: -40°C; Packaging: Box; Application: Rising Cage Clamp; Number of Pins: 2; Number of Rows: 1; Orientation: Horizontal; Pitch: 3.5mm
footprint 691214110002
pins: 1, 2

## 691214110002S
designator J?  (value not drawn)
WR-TBL Series 2141S Horizontal Entry Modular, THT, pitch 3.5mm, 2p; Manufacturer: Wurth Elektronik; Modularity: Yes; Rated Current: 10A; Working Voltage: 300V; ComponentLink1Description: Website Link; ComponentLink1URL: https://www.we-online.com/redexpert/article/691214110002S?ad; ComponentLink2Description: Datasheet Link; ComponentLink2URL: https://www.we-online.com/redexpert/spec/691214110002S?ad; Manufacturer Part Number: 691214110002S; Category: Terminal Blocks; Match Code: WR-TBL; Mount: Through Hole; Operating Temperature Max: 120°C; Operating Temperature Min: -30°C; Packaging: Box; Application: Rising Cage Clamp; Number of Pins: 2; Number of Rows: 1; Orientation: Horizontal; Pitch: 3.5mm
footprint 691214110002S
pins: 1, 2

## 691214110003
designator J?  (value not drawn)
WR-TBL Series 2141 Horizontal Entry Modular, THT, pitch 3.5mm, 3p; Manufacturer: Wurth Elektronik; Modularity: Yes; Rated Current: 10A; Working Voltage: 300V; ComponentLink1Description: Website Link; ComponentLink1URL: https://www.we-online.com/redexpert/article/691214110003?ad; ComponentLink2Description: Datasheet Link; ComponentLink2URL: https://www.we-online.com/redexpert/spec/691214110003?ad; Manufacturer Part Number: 691214110003; Category: Terminal Blocks; Match Code: WR-TBL; Mount: Through Hole; Operating Temperature Max: 105°C; Operating Temperature Min: -40°C; Packaging: Box; Application: Rising Cage Clamp; Number of Pins: 3; Number of Rows: 1; Orientation: Horizontal; Pitch: 3.5mm
footprint 691214110003
pins: 1, 2, 3

## 691214110003S
designator J?  (value not drawn)
WR-TBL Series 2141S Horizontal Entry Modular, THT, pitch 3.5mm, 3p; Manufacturer: Wurth Elektronik; Modularity: Yes; Rated Current: 10A; Working Voltage: 300V; ComponentLink1Description: Website Link; ComponentLink1URL: https://www.we-online.com/redexpert/article/691214110003S?ad; ComponentLink2Description: Datasheet Link; ComponentLink2URL: https://www.we-online.com/redexpert/spec/691214110003S?ad; Manufacturer Part Number: 691214110003S; Category: Terminal Blocks; Match Code: WR-TBL; Mount: Through Hole; Operating Temperature Max: 120°C; Operating Temperature Min: -30°C; Packaging: Box; Application: Rising Cage Clamp; Number of Pins: 3; Number of Rows: 1; Orientation: Horizontal; Pitch: 3.5mm
footprint 691214110003S
pins: 1, 2, 3

## 691214210001
designator J?  (value not drawn)
WR-TBL Series 2142 Horizontal Entry, THT, pitch 7mm, 1p; Manufacturer: Wurth Elektronik; Modularity: Yes; Rated Current: 10A; Working Voltage: 300V; ComponentLink1Description: Website Link; ComponentLink1URL: https://www.we-online.com/redexpert/article/691214210001?ad; ComponentLink2Description: Datasheet Link; ComponentLink2URL: https://www.we-online.com/redexpert/spec/691214210001?ad; Manufacturer Part Number: 691214210001; Category: Terminal Blocks; Match Code: WR-TBL; Mount: Through Hole; Operating Temperature Max: 120°C; Operating Temperature Min: -30°C; Packaging: Box; Application: Rising Cage Clamp; Number of Pins: 1; Number of Rows: 1; Orientation: Horizontal; Pitch: 7mm
footprint 691214210001
pins: 1

## 691214210002
designator J?  (value not drawn)
WR-TBL Series 2142 Horizontal Entry, THT, pitch 7mm, 2p; Manufacturer: Wurth Elektronik; Modularity: Yes; Rated Current: 10A; Working Voltage: 300V; ComponentLink1Description: Website Link; ComponentLink1URL: https://www.we-online.com/redexpert/article/691214210002?ad; ComponentLink2Description: Datasheet Link; ComponentLink2URL: https://www.we-online.com/redexpert/spec/691214210002?ad; Manufacturer Part Number: 691214210002; Category: Terminal Blocks; Match Code: WR-TBL; Mount: Through Hole; Operating Temperature Max: 120°C; Operating Temperature Min: -30°C; Packaging: Box; Application: Rising Cage Clamp; Number of Pins: 2; Number of Rows: 1; Orientation: Horizontal; Pitch: 7mm
footprint 691214210002
pins: 1, 2

## 691214210101
designator J?  (value not drawn)
WR-TBL Series 2142 Horizontal Entry, THT, pitch 7mm, 1p; Manufacturer: Wurth Elektronik; Modularity: Yes; Rated Current: 10A; Working Voltage: 300V; ComponentLink1Description: Website Link; ComponentLink1URL: https://www.we-online.com/redexpert/article/691214210101?ad; ComponentLink2Description: Datasheet Link; ComponentLink2URL: https://www.we-online.com/redexpert/spec/691214210101?ad; Manufacturer Part Number: 691214210101; Category: Terminal Blocks; Match Code: WR-TBL; Mount: Through Hole; Operating Temperature Max: 120°C; Operating Temperature Min: -30°C; Packaging: Box; Application: Rising Cage Clamp; Number of Pins: 1; Number of Rows: 1; Orientation: Horizontal; Pitch: 7mm
footprint 691214210101
pins: 1

## 691214300002
designator J?  (value not drawn)
WR-TBL Series 2143 Vertical Entry Modular, THT, pitch 3.81mm, 2p; Manufacturer: Wurth Elektronik; Modularity: Yes; Rated Current: 10A; Working Voltage: 300V; ComponentLink1Description: Website Link; ComponentLink1URL: https://www.we-online.com/redexpert/article/691214300002?ad; ComponentLink2Description: Datasheet Link; ComponentLink2URL: https://www.we-online.com/redexpert/spec/691214300002?ad; Manufacturer Part Number: 691214300002; Category: Terminal Blocks; Match Code: WR-TBL; Mount: Through Hole; Operating Temperature Max: 120°C; Operating Temperature Min: -30°C; Packaging: Box; Application: Rising Cage Clamp; Number of Pins: 2; Number of Rows: 1; Orientation: Vertical; Pitch: 3.81mm
footprint 691214300002
pins: 1, 2

## 691214300003
designator J?  (value not drawn)
WR-TBL Series 2143 Vertical Entry Modular, THT, pitch 3.81mm, 3p; Manufacturer: Wurth Elektronik; Modularity: Yes; Rated Current: 10A; Working Voltage: 300V; ComponentLink1Description: Website Link; ComponentLink1URL: https://www.we-online.com/redexpert/article/691214300003?ad; ComponentLink2Description: Datasheet Link; ComponentLink2URL: https://www.we-online.com/redexpert/spec/691214300003?ad; Manufacturer Part Number: 691214300003; Category: Terminal Blocks; Match Code: WR-TBL; Mount: Through Hole; Operating Temperature Max: 120°C; Operating Temperature Min: -30°C; Packaging: Box; Application: Rising Cage Clamp; Number of Pins: 3; Number of Rows: 1; Orientation: Vertical; Pitch: 3.81mm
footprint 691214300003
pins: 1, 2, 3

## 691214310002
designator J?  (value not drawn)
WR-TBL Series 2143 Horizontal Entry Modular, THT, pitch 3.81mm, 2p; Manufacturer: Wurth Elektronik; Modularity: Yes; Rated Current: 10A; Working Voltage: 300V; ComponentLink1Description: Website Link; ComponentLink1URL: https://www.we-online.com/redexpert/article/691214310002?ad; ComponentLink2Description: Datasheet Link; ComponentLink2URL: https://www.we-online.com/redexpert/spec/691214310002?ad; Manufacturer Part Number: 691214310002; Category: Terminal Blocks; Match Code: WR-TBL; Mount: Through Hole; Operating Temperature Max: 105°C; Operating Temperature Min: -40°C; Packaging: Box; Application: Rising Cage Clamp; Number of Pins: 2; Number of Rows: 1; Orientation: Horizontal; Pitch: 3.81mm
footprint 691214310002
pins: 1, 2